# EAGLE library part BNX016-01 (library lc-filter-bnx016)
Murata BNX016-01 - LC filter Technical Specifications: VCC: 25V Operating Temperature: -40°C to 125°C Digikey: 490-5055-ND Mouser: 81-BNX016-01
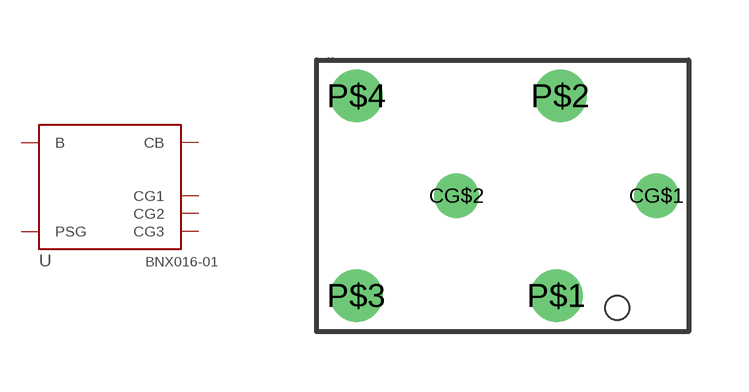
[diagram p0: symbol with the pads of BNX016-01; footprint BNX016-01]

Designator prefix U

## BNX016-01"  [BNX016-01]
CG$1  CG3
CG$2  CG2
P$1  B
P$2  CB
P$3  PSG
P$4  CG1

## Footprint BNX016-01 (pad centres in mm)
Thin Small Outline Transistor Package (TSOT) (UJ-5)
drill 0.6: CG$1 5,0; CG$2 0,0
drill 0.8: P$1 2.5,-2.5; P$2 2.6,2.5; P$3 -2.5,-2.5; P$4 -2.5,2.5